# EAGLE library part AVR-ISP-6PIN (library avr-isp)
AVR ISP 6pin 3x2 pin header
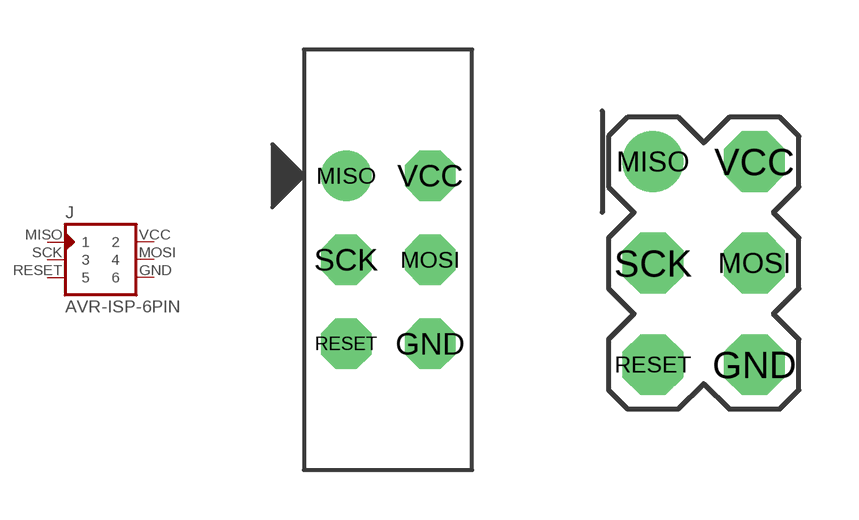
[diagram p0: symbol with the pads of AVR-ISP-6PIN; footprints AVR-ISP-6PIN, AVR-ISP-6PIN-SMAILL-SILK]

Designator prefix J

## AVR-ISP-6PINAVR-ISP-6PIN  [AVR-ISP-6PIN]
GND  6  pas
MISO  1  pas
MOSI  4  pas
RESET  5  pas
SCK  3  pas
VCC  2  pas

## AVR-ISP-6PINAVR-ISP-6PIN-SMALL-SILK  [AVR-ISP-6PIN-SMAILL-SILK]
Pads as for AVR-ISP-6PIN

## Footprint AVR-ISP-6PIN (pad centres in mm)
PIN HEADER
drill 1.016 octagon: GND 1.27,-2.54; MOSI 1.27,0; RESET -1.27,-2.54; SCK -1.27,0; VCC 1.27,2.54
drill 1.016: MISO -1.27,2.54

## Footprint AVR-ISP-6PIN-SMAILL-SILK (pad centres in mm)
drill 1.016 octagon: GND 1.27,-2.54; MOSI 1.27,0; RESET -1.27,-2.54; SCK -1.27,0; VCC 1.27,2.54
drill 1.016: MISO -1.27,2.54